# Altium integrated library PMIC - Voltage Regulators - Linear.IntLib: 4 symbols
Pins are listed as number, name and electrical type; pins without a type are passive.

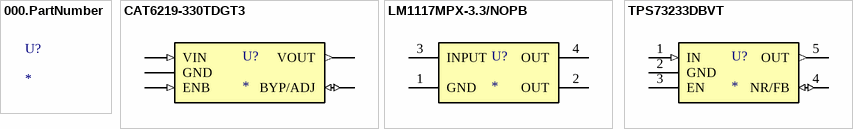
[diagram p0: symbols 000.PartNumber to TPS73233DBVT]

## 000.PartNumber
designator U?
Digikey Description; Manufacturer: *; Series: *; Package: *; Output Configuration: *; Output Type: *; Voltage - Input (Max): *; Voltage - Output (Min/Fixed): *; Voltage - Output (Max): *; Voltage Dropout (Max): *; Current - Output: *; PSRR: *; Control Features: *; Protection Features: *; Operating Temperature: *; Mounting Type: *; Package / Case: *; Supplier Device Package: *; Number of Regulators: *; Current - Quiescent (Iq): *; Current - Supply (Max): *; Base Product Number: *; Ozdisan Link: *; Digikey Link: *; Farnell TR Link: *; Mouser Link: *

## CAT6219-330TDGT3
designator U?
IC REG LIN 3.3V 500MA TSOT23-5; Manufacturer: ON Semiconductor; Output Configuration: Positive; Output Type: Fixed; Voltage - Input (Max): 5.5V; Voltage Dropout (Max): 0.5V @ 500mA; PSRR: 64dB ~ 54dB (1kHz ~ 20kHz); Control Features: Enable; Protection Features: Over Current, Over Temperature, Under Voltage Lockout (UVLO); Number of Regulators: 1; Current - Quiescent (Iq): 75µA; Current - Supply (Max): 90µA; Base Product Number: CAT6219; Series: -; Package: Tape & Reel (TR); Voltage - Output (Min/Fixed): 3.3V; Voltage - Output (Max): -; Current - Output: 500mA; Operating Temperature: -40°C ~ 125°C; Mounting Type: Surface Mount; Package / Case: SOT-23-5 Thin, TSOT-23-5; Supplier Device Package: TSOT-23-5; Ozdisan Link: https://ozdisan.com/Product/Detail/508756/CAT6219-330TDGT3; Digikey Link: https://www.digikey.com/en/products/detail/on-semiconductor/CAT6219-330TDGT3/1631091; Farnell TR Link: https://tr.farnell.com/on-semiconductor/cat6219-330tdgt3/ldo-fixed-0-5a-3-3v-tsot-23-5/dp/2534233?st=cat6219-330tdgt3; Mouser Link: https://www.mouser.com.tr/ProductDetail/ON-Semiconductor/CAT6219-330TDGT3?qs=%2Fha2pyFadugdZC6KXX2NTPzQ2CJR%2FH6HVqIx7J1VVEDdnE2fG3cTdw%3D%3D
footprint ONS_TSOT-23-5
pins: 1 VIN (in), 2 GND, 3 ENB (in), 4 BYP/ADJ (io), 5 VOUT (out)

## LM1117MPX-3.3/NOPB
designator U?
IC REG LIN 3.3V 800MA SOT223-4; Manufacturer: Texas Instruments; Output Configuration: Positive; Output Type: Fixed; Voltage - Input (Max): 15 V; Voltage Dropout (Max): 1.2V @ 800mA; PSRR: 75dB (120Hz); Protection Features: Over Current, Over Temperature; Number of Regulators: 1; Current - Quiescent (Iq): 5 mA; Current - Supply (Max): 10 mA; Base Product Number: LM1117; Series: LM1117-3.3; Package: Tape & Reel (TR); Voltage - Output (Min/Fixed): 3.3 V; Voltage - Output (Max): -; Current - Output: 800 mA; Control Features: -; Operating Temperature: 0°C ~ 125°C; Mounting Type: Surface Mount; Package / Case: TO-261-4, TO-261AA; Supplier Device Package: SOT-223-4; Ozdisan Link: https://ozdisan.com/entegre-devreler-ics/guc-entegreleri/lineer-voltaj-regulatorleri/LM1117MPX-3-3NOPB; Digikey Link: https://www.digikey.com/en/products/detail/texas-instruments/LM1117MPX-3-3-NOPB/366733?s=N4IgTCBcDaIDIFkCMKDsCAKANAtAZgDo8B6AOQHkMAhEAXQF8g; Farnell TR Link: https://tr.farnell.com/texas-instruments/lm1117mpx-3-3-nopb/regulator-ldo-fixed-3-3v-sot-223/dp/3122024?st=lm1117mpx-3.3/nopb; Mouser Link: https://www.mouser.com.tr/ProductDetail/Texas-Instruments/LM1117MPX-33-NOPB?qs=X1J7HmVL2ZHRbBIxXi4utg%3D%3D
footprint TI_SOT-223-4
pins: 1 GND (power), 2 OUT (power), 3 INPUT (power), 4 OUT (power)

## TPS73233DBVT
designator U?
IC REG LINEAR 3.3V 250MA SOT23-5; Manufacturer: Texas Instruments; Output Configuration: Positive; Output Type: Fixed; Voltage - Input (Max): 5.5 V; Voltage Dropout (Max): 0.15V @ 250mA; PSRR: 58dB ~ 37dB (100Hz ~ 10kHz); Control Features: Enable; Protection Features: Over Current, Over Temperature, Short Circuit, Reverse Polarity; Number of Regulators: 1; Current - Quiescent (Iq): 550 µA; Current - Supply (Max): 950 µA; Base Product Number: TPS732; Series: -; Package: Tape & Reel (TR); Voltage - Output (Min/Fixed): 3.3 V; Voltage - Output (Max): -; Current - Output: 250 mA; Operating Temperature: -40°C ~ 125°C; Mounting Type: Surface Mount; Package / Case: SC-74A, SOT-753; Supplier Device Package: SOT-23-5; Ozdisan Link: https://ozdisan.com/Product/Detail/469562/TPS73233DBVT; Digikey Link: https://www.digikey.com/en/products/detail/texas-instruments/TPS73233DBVT/604393; Farnell TR Link: https://tr.farnell.com/texas-instruments/tps73233dbvt/ldo-fixed-3-3v-150ma-sot-23-5/dp/3122466?st=tps73233dbvt; Mouser Link: https://www.mouser.com.tr/ProductDetail/Texas-Instruments/TPS73233DBVT?qs=6zVL%252ByCp0mqhtQiH0WZzkQ%3D%3D
footprint TI_SOT-23-5
pins: 1 IN (in), 2 GND (power), 3 EN, 4 NR/FB (io), 5 OUT (out)